# EAGLE library part ACS714 (library Fugu_LSI)
SENSOR CURRENT HALL 50A AC/DC
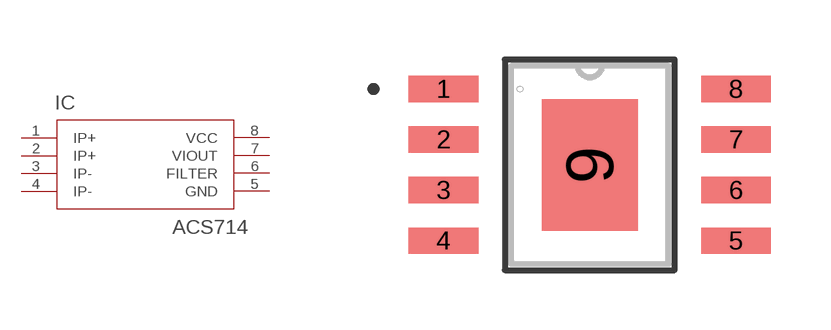
[diagram p31: symbol with the pads of SOIC-8; footprint SOIC-8]

Designator prefix IC

## ACS714 (MANUFACTURER_PART_NUMBER: ACS714LLCTR50AT; VENDOR: Allegro Microsystems Inc.)  [SOIC-8]
1  IP+  in
2  IP+  in
3  IP-  out
4  IP-  out
5  GND  pwr
6  FILTER  pas
7  VIOUT  out
8  VCC  pwr

## Footprint SOIC-8 (pad centres in mm)
smd 1.753 x 0.66: 1 -3.675,1.905; 2 -3.675,0.635; 3 -3.675,-0.635; 4 -3.675,-1.905; 5 3.675,-1.905; 6 3.675,-0.635; 7 3.675,0.635; 8 3.675,1.905
smd 2.413 x 3.302: 9 0,0